# EAGLE library part ADXL335 (library RFDuino)
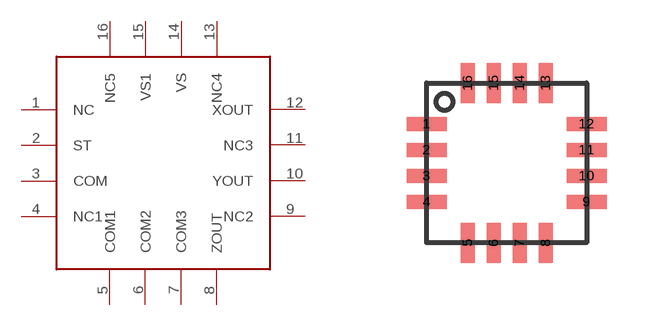
[diagram p2: symbol with the pads of QFN16; footprint QFN16]

Designator prefix -

## ADXL335  [QFN16]
1  NC
2  ST
3  COM
4  NC1
5  COM1
6  COM2
7  COM3
8  ZOUT
9  NC2
10  YOUT
11  NC3
12  XOUT
13  NC4
14  VS
15  VS1
16  NC5

## Footprint QFN16 (pad centres in mm)
smd 1 x 0.35: 1 -2,0.975; 2 -2,0.325; 3 -2,-0.325; 4 -2,-0.975; 9 2,-0.975; 10 2,-0.325; 11 2,0.325; 12 2,0.975
smd 0.35 x 1: 5 -0.975,-2; 6 -0.325,-2; 7 0.325,-2; 8 0.975,-2; 13 0.975,2; 14 0.325,2; 15 -0.325,2; 16 -0.975,2